# Altium footprint library Reguladores_PCBLIB.PcbLib: 24 footprints (part 2 of 2)
Each footprint in its own frame and in the unit in brackets; x right, y up, seen from the top. Pads: shape width x height; smd on the part's side, far side on the other; paste and mask are expansions set on the pad; w line width, h text height; cw(c..) or ccw(c..) is an arc to the next point about the centre after c.
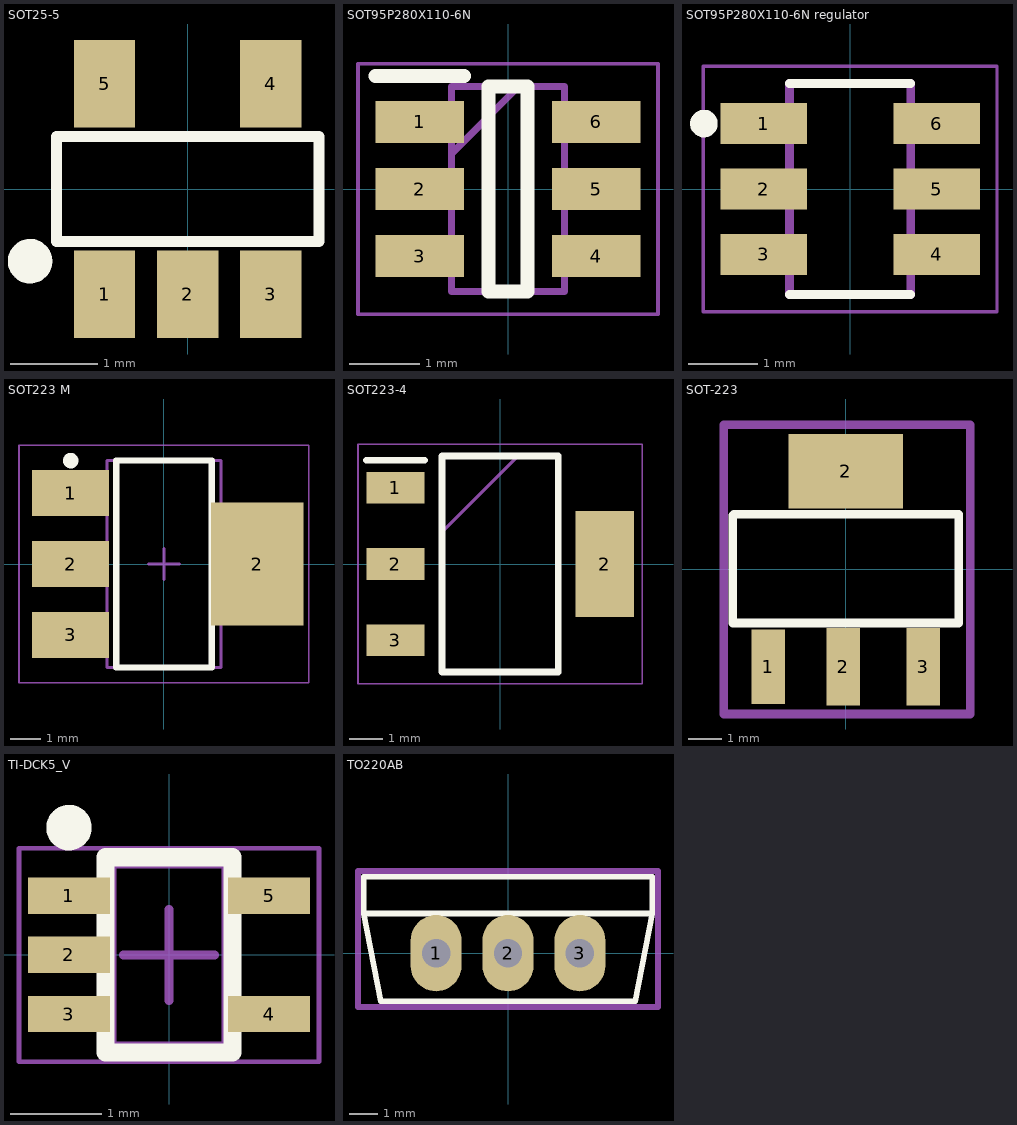
[diagram p1: the footprints below, top view; thin cyan lines are the x and y axes]

## SOT25-5 [mm]
pads (5):
  rect 0.7x1 smd: 1(-0.95,-1.2) 2(0,-1.2) 3(0.95,-1.2) 4(0.95,1.2) 5(-0.95,1.2)
Top Overlay:
  circle w0.254: c-1.8,-0.825 r0.127
  lines w0.127: -1.5,-0.6 -1.5,0.6 1.5,0.6 1.5,-0.6 -1.5,-0.6
3D body "User Library-sot25.step": height 1.1, standoff -0.05, extent -1.5,-1.2 1.5,1.2

## SOT95P280X110-6N [mm]
pads (6):
  rect 1.25x0.6 smd: 1(-1.25,0.95) 2(-1.25,0) 3(-1.25,-0.95) 4(1.25,-0.95) 5(1.25,0) 6(1.25,0.95)
Top Overlay:
  lines w0.2: -1.875,1.6 -0.625,1.6 ; -0.275,-1.45 0.275,-1.45 0.275,1.45 -0.275,1.45 -0.275,-1.45
Mechanical 13:
  lines w0.1: -0.8,0.5 0.15,1.45 ; -0.8,-1.45 0.8,-1.45 0.8,1.45 -0.8,1.45 -0.8,-1.45
Mechanical 15:
  lines w0.05: -2.125,-1.775 2.125,-1.775 2.125,1.775 -2.125,1.775 -2.125,-1.775
3D body "LMR14010ADDCR.stp": height 1.1, standoff 0, extent -1.4,-1.45 1.4,1.45

## SOT95P280X110-6N regulator [mm]
pads (6):
  rect 1.25x0.59 smd: 1(-1.255,0.95) 2(-1.255,0) 3(-1.255,-0.95) 4(1.255,-0.95) 5(1.255,0) 6(1.255,0.95)
Top Overlay:
  circle w0.2: c-2.123,0.95 r0.1
  lines w0.127: -0.88,-1.53 0.88,-1.53 ; -0.88,1.53 0.88,1.53
Mechanical 4:
  lines w0.127: -0.88,-1.53 -0.88,1.53 ; -0.88,-1.53 0.88,-1.53 ; -0.88,-1.53 -0.88,1.53 ; -0.88,-1.53 0.88,-1.53 ; -0.88,1.53 0.88,1.53 ; -0.88,1.53 0.88,1.53 ; 0.88,-1.53 0.88,1.53 ; 0.88,-1.53 0.88,1.53
Mechanical 16:
  lines w0.05: -2.13,-1.78 2.13,-1.78 2.13,1.78 -2.13,1.78 -2.13,-1.78
3D body: height 0.8, standoff 0, extent -0.889,-1.524 0.889,1.524

## SOT223 M [mm] "SOT223, 4-Leads, Body 6,50x7,00mm (avg), Pitch 2,30mm, IPC Low Density"
height 1.8
pads (4):
  rect 2.5x1.5 smd: 1(-3.025,2.3) 2(-3.025,0) 3(-3.025,-2.3)
  rect 3x4 smd: 2(3.025,0)
Top Overlay:
  circle w0.25: c-3.025,3.35 r0.125
  lines w0.2: -1.55,-3.35 -1.55,3.35 1.55,3.35 1.55,-3.35 -1.55,-3.35
Mechanical 13:
  lines w0.1: -1.85,-3.35 -1.85,3.35 1.85,3.35 1.85,-3.35 -1.85,-3.35
Mechanical 15:
  lines w0.05: -4.7,-3.85 -4.7,3.85 4.7,3.85 4.7,-3.85 -4.7,-3.85
  lines w0.1: -0.5,0 0.5,0 ; 0,-0.5 0,0.5
Mechanical 29:
  text ".Designator" at 0,0 h2
3D body "SOT230P700X180-4M.step": height 1.8, standoff 0, extent -3.5,-3.35 3.5,3.35

## SOT223-4 [mm] "SOT223-4"
pads (4):
  rect 1.75x0.95 smd: 1(-3.15,2.3) 2(-3.15,0) 3(-3.15,-2.3)
  rect 1.75x3.2 smd: 2(3.15,0)
Top Overlay:
  lines w0.2: -4.025,3.125 -2.275,3.125 ; -1.75,-3.25 1.75,-3.25 1.75,3.25 -1.75,3.25 -1.75,-3.25
Mechanical 13:
  lines w0.1: -1.75,0.95 0.55,3.25 ; -1.75,-3.25 1.75,-3.25 1.75,3.25 -1.75,3.25 -1.75,-3.25
Mechanical 15:
  lines w0.05: -4.275,-3.6 4.275,-3.6 4.275,3.6 -4.275,3.6 -4.275,-3.6
3D body "LM1117IMPX-3.3_NOPB.stp": height 1.8, standoff 0, extent -3.5,-3.25 3.5,3.25

## SOT-223 [mm]
pads (4):
  rect 1x2.2 smd: 1(-2.3,-2.9)
  rect 1x2.3 smd: 2(-0.075,-2.9) 3(2.3,-2.9)
  rect 3.4x2.2 smd: 2(0,2.9)
Top Overlay:
  lines w0.254: -3.35,1.6 -3.35,-1.6 3.35,-1.6 3.35,1.625 -3.325,1.625
Mechanical 15:
  lines w0.254: -3.625,-4.3 3.7,-4.3 3.7,4.275 -3.625,4.275 -3.625,-4.3
3D body "CircuitWorks-SOT-223.step": height 1.7, standoff 0.02, extent -3.275,-3.48 3.225,3.48

## TI-DCK5_V [mm] "SOT23, 5-Leads, Body 2x1.25mm, Pitch 0.65mm"
height 1.1
pads (5):
  rect 0.9x0.4 smd: 1(-1.1,0.65) 2(-1.1,0) 3(-1.1,-0.65) 4(1.1,-0.65) 5(1.1,0.65)
Top Overlay:
  circle w0.25: c-1.1,1.4 r0.125
  lines w0.2: -0.7,-1.075 -0.7,1.075 0.7,1.075 0.7,-1.075 -0.7,-1.075
Mechanical 13:
  lines w0.1: -0.625,-1 0.625,-1 0.625,1 -0.625,1 -0.625,-1
Mechanical 15:
  lines w0.05: -1.65,-1.175 1.65,-1.175 1.65,1.175 -1.65,1.175 -1.65,-1.175
  lines w0.1: -0.5,0 0.5,0 ; 0,-0.5 0,0.5
3D body "sc-70.step": height 1.09, standoff -0.01, extent -1.06,-1 1.06,1

## TO220AB [mm]
pads (3):
  oval 1.8x2.7 hole 1: 1(-2.54,0) 2(0,0) 3(2.54,0)
Top Overlay:
  lines w0.2: -5.1,1.4 -5.1,2.7 5.1,2.7 5.1,1.4 ; -5.1,1.4 5.1,1.4 ; -5.1,1.4 -4.5,-1.7 4.5,-1.7 5.1,1.4
Mechanical 15:
  lines w0.1: -0.2,0.5 0.2,0.5 ; 0,0.3 0,0.7
  lines w0.2: -5.3,-1.9 5.3,-1.9 5.3,2.9 -5.3,2.9 -5.3,-1.9
Mechanical 29:
  text ".Designator" at -5.1,3.3 h0.5
  text "1" at -3.9,-1.4 h0.5
3D body "TO220AB.STEP": height 19.34, standoff -1.98, extent -5.15,-1.778 5.15,2.732